# Altium schematic symbol library XT60 Connector.Schlib: 1 symbol
Pins are listed as number, name and electrical type; pins without a type are passive.

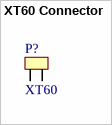
[diagram p0: symbol XT60 Connector]

## XT60 Connector
designator P?, comment XT60
XT60 CONNECTORS FEMALE PAIR
pins: 1, 2